# EAGLE library part ADS1256 (library ds_ic_peripherals)
Very Low Noise, 24-Bit Analog-to-Digital Converter
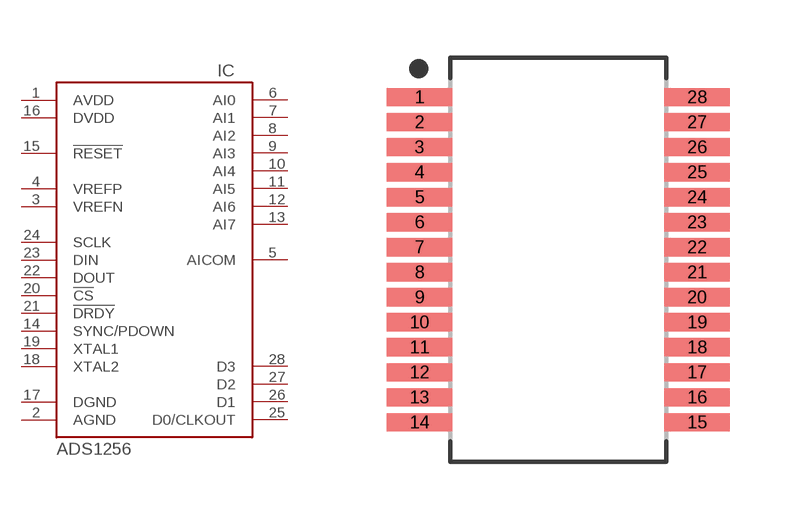
[diagram p48: symbol with the pads of SOP65P780X200-28N; footprint SOP65P780X200-28N]

Designator prefix IC

## ADS1256IDB  [SOP65P780X200-28N]
1  AVDD  pwr
2  AGND  pwr
3  VREFN  in
4  VREFP  in
5  AICOM  in
6  AI0  in
7  AI1  in
8  AI2  in
9  AI3  in
10  AI4  in
11  AI5  in
12  AI6  in
13  AI7  in
14  SYNC/PDOWN
15  !RESET
16  DVDD  pwr
17  DGND  pwr
18  XTAL2
19  XTAL1
20  !CS
21  !DRDY
22  DOUT
23  DIN
24  SCLK
25  D0/CLKOUT
26  D1
27  D2
28  D3

## Footprint SOP65P780X200-28N (pad centres in mm)
28-SOP, 0.65 mm pitch, 7.80 mm span, 10.20 X 5.30 X 2.00 mm body 28-pin SOP package with 0.65 mm pitch, 7.80 mm span with body size 10.20 X 5.30 X 2.00 mm
smd 1.702 x 0.475: 1 -3.603,4.225; 2 -3.603,3.575; 3 -3.603,2.925; 4 -3.603,2.275; 5 -3.603,1.625; 6 -3.603,0.975; 7 -3.603,0.325; 8 -3.603,-0.325; 9 -3.603,-0.975; 10 -3.603,-1.625; 11 -3.603,-2.275; 12 -3.603,-2.925; 13 -3.603,-3.575; 14 -3.603,-4.225; 15 3.603,-4.225; 16 3.603,-3.575; 17 3.603,-2.925; 18 3.603,-2.275; 19 3.603,-1.625; 20 3.603,-0.975; 21 3.603,-0.325; 22 3.603,0.325; 23 3.603,0.975; 24 3.603,1.625; 25 3.603,2.275; 26 3.603,2.925; 27 3.603,3.575; 28 3.603,4.225